# EAGLE library part ADP3303 (library analog-devices)
ANALOG DEVICES
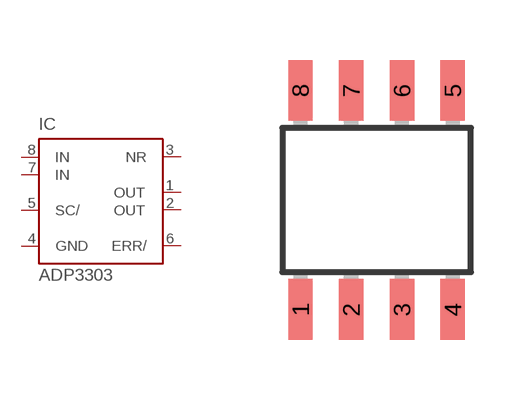
[diagram p4: symbol with the pads of SO8-COOL; footprint SO8-COOL]

Designator prefix IC

## ADP3303 (MPN: ADP3303ARZ-5; OC_FARNELL: 1465451; OC_NEWARK: 19M8716)  [SO8-COOL]
1  OUT  pas
2  OUT  pas
3  NR  pas
4  GND  pwr
5  SC/  in
6  ERR/  oc
7  IN  in
8  IN  in

## Footprint SO8-COOL (pad centres in mm)
SMALL OUTLINE INTEGRATED CIRCUIT
smd 0.61 x 1.524: 1 -1.905,-2.743; 2 -0.635,-2.743; 3 0.635,-2.743; 4 1.905,-2.743; 5 1.905,2.743; 6 0.635,2.743; 7 -0.635,2.743; 8 -1.905,2.743